# EAGLE library part DEV-15583 (library DEV-15583)
RT1062 Teensy 4.0 i.MX ARM® Cortex®-M7 MPU Embedded Evaluation Board Check prices <https://pricing.snapeda.com/parts/DEV-15583/SparkFun%20Electronics/view-part?ref=eda>
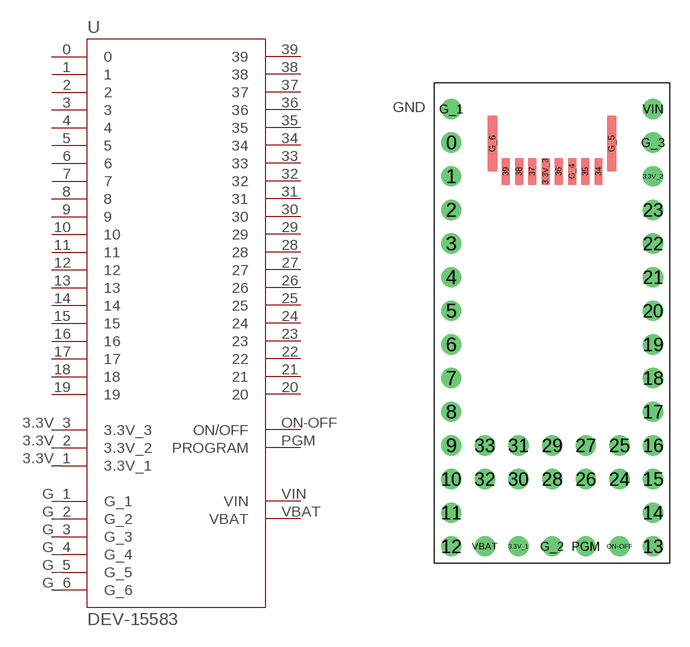
[diagram p0: symbol with the pads of MODULE_DEV-15583; footprint MODULE_DEV-15583]

Designator prefix U

## DEV-15583 (AVAILABILITY: In Stock; DESCRIPTION: RT1062 Teensy 4.0 i.MX ARM® Cortex®-M7 MPU Embedded Evaluation Board; MF: SparkFun Electronics; MP: DEV-15583; PACKAGE: None; PRICE: None; PURCHASE-URL: https://pricing.snapeda.com/search/part/DEV-15583/?ref=eda)  [MODULE_DEV-15583]
0  0
1  1
2  2
3  3
3.3V_1  3.3V_1  pwr
3.3V_2  3.3V_2  pwr
3.3V_3  3.3V_3  pwr
4  4
5  5
6  6
7  7
8  8
9  9
10  10
11  11
12  12
13  13
14  14
15  15
16  16
17  17
18  18
19  19
20  20
21  21
22  22
23  23
24  24
25  25
26  26
27  27
28  28
29  29
30  30
31  31
32  32
33  33
34  34
35  35
36  36
37  37
38  38
39  39
G_1  G_1  pwr
G_2  G_2  pwr
G_3  G_3  pwr
G_4  G_4  pwr
G_5  G_5  pwr
G_6  G_6  pwr
ON-OFF  ON/OFF
PGM  PROGRAM
VBAT  VBAT  pwr
VIN  VIN  pwr

## Footprint MODULE_DEV-15583 (pad centres in mm)
drill 1.02: 0 -7.62,13.97; 1 -7.62,11.43; 2 -7.62,8.89; 3 -7.62,6.35; 3.3V_1 -2.54,-16.51; 3.3V_2 7.62,11.43; 4 -7.62,3.81; 5 -7.62,1.27; 6 -7.62,-1.27; 7 -7.62,-3.81; 8 -7.62,-6.35; 9 -7.62,-8.89; 10 -7.62,-11.43; 11 -7.62,-13.97; 12 -7.62,-16.51; 13 7.62,-16.51; 14 7.62,-13.97; 15 7.62,-11.43; 16 7.62,-8.89; 17 7.62,-6.35; 18 7.62,-3.81; 19 7.62,-1.27; 20 7.62,1.27; 21 7.62,3.81; 22 7.62,6.35; 23 7.62,8.89; 24 5.08,-11.43; 25 5.08,-8.89; 26 2.54,-11.43; 27 2.54,-8.89; 28 0,-11.43; 29 0,-8.89; 30 -2.54,-11.43; 31 -2.54,-8.89; 32 -5.08,-11.43; 33 -5.08,-8.89; G_1 -7.62,16.51; G_2 0,-16.51; G_3 7.62,13.97; ON-OFF 5.08,-16.51; PGM 2.54,-16.51; VBAT -5.08,-16.51; VIN 7.62,16.51
smd 0.6 x 2: 3.3V_3 -0.5,11.8; 34 3.5,11.8; 35 2.5,11.8; 36 0.5,11.8; 37 -1.5,11.8; 38 -2.5,11.8; 39 -3.5,11.8; G_4 1.5,11.8
smd 0.7 x 4.2: G_5 4.5,13.9; G_6 -4.5,13.9